# EAGLE library part MKL26Z (library nxp-mkl26z)
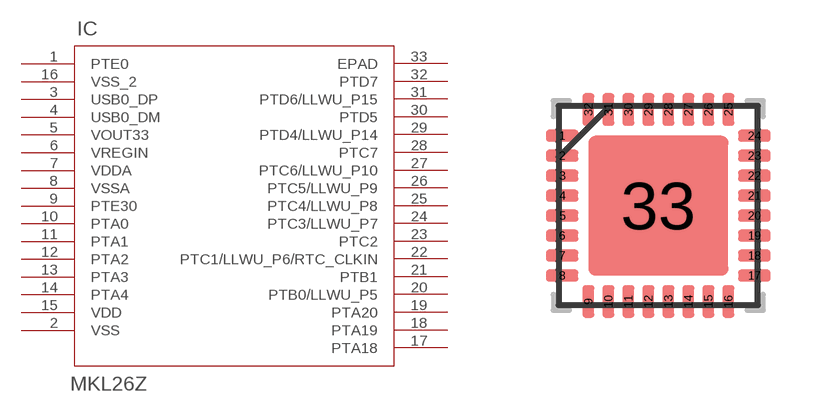
[diagram p0: symbol with the pads of QFN_32_5X5X0P9; footprint QFN_32_5X5X0P9]

Designator prefix IC

## MKL26Z  [QFN_32_5X5X0P9]
1  PTE0
2  VSS  pwr
3  USB0_DP  pas
4  USB0_DM  pas
5  VOUT33  out
6  VREGIN  in
7  VDDA  pwr
8  VSSA  pwr
9  PTE30
10  PTA0
11  PTA1
12  PTA2
13  PTA3
14  PTA4
15  VDD  pwr
16  VSS_2  pwr
17  PTA18
18  PTA19
19  PTA20
20  PTB0/LLWU_P5
21  PTB1
22  PTC1/LLWU_P6/RTC_CLKIN
23  PTC2
24  PTC3/LLWU_P7
25  PTC4/LLWU_P8
26  PTC5/LLWU_P9
27  PTC6/LLWU_P10
28  PTC7
29  PTD4/LLWU_P14
30  PTD5
31  PTD6/LLWU_P15
32  PTD7
33  EPAD  pas

## Footprint QFN_32_5X5X0P9 (pad centres in mm)
smd 0.813 x 0.305: 1 -2.402,1.75; 2 -2.402,1.25; 3 -2.402,0.75; 4 -2.402,0.25; 5 -2.402,-0.25; 6 -2.402,-0.75; 7 -2.402,-1.25; 8 -2.402,-1.75; 17 2.402,-1.75; 18 2.402,-1.25; 19 2.402,-0.75; 20 2.402,-0.25; 21 2.402,0.25; 22 2.402,0.75; 23 2.402,1.25; 24 2.402,1.75
smd 0.305 x 0.813: 9 -1.75,-2.402; 10 -1.25,-2.402; 11 -0.75,-2.402; 12 -0.25,-2.402; 13 0.25,-2.402; 14 0.75,-2.402; 15 1.25,-2.402; 16 1.75,-2.402; 25 1.75,2.402; 26 1.25,2.402; 27 0.75,2.402; 28 0.25,2.402; 29 -0.25,2.402; 30 -0.75,2.402; 31 -1.25,2.402; 32 -1.75,2.402
smd 3.5 x 3.5: 33 0,0